# Altium footprint library Pin_Test_Point.PcbLib: 2 footprints
Each footprint in its own frame and in the unit in brackets; x right, y up, seen from the top. Pads: shape width x height; smd on the part's side, far side on the other; paste and mask are expansions set on the pad; w line width, h text height; cw(c..) or ccw(c..) is an arc to the next point about the centre after c.
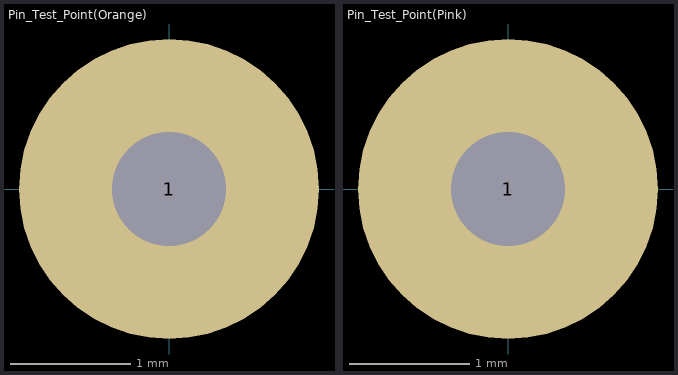
[diagram p0: the footprints below, top view; thin cyan lines are the x and y axes]

## Pin_Test_Point(Orange) [mm]
pads (1):
  round 2.5 hole 0.95: 1(0,0)
3D body "Test Point (orange).STEP": height 6.93, standoff -2.9, extent -1.3,-1.78 1.3,1.78

## Pin_Test_Point(Pink) [mm]
pads (1):
  round 2.5 hole 0.95: 1(0,0)
3D body "Test Point (pink).STEP": height 6.93, standoff -2.9, extent -1.3,-1.78 1.3,1.78